# EAGLE library part MAX570X (library DAC)
The MAX5703/MAX5704/MAX5705 single-channel, lowpower, 8-/10-/12-bit, voltage-output digital-to-analog converters (DACs) include output buffers and an internal reference that is selectable to be 2.048V, 2.500V, or 4.096V. The MAX5703/MAX5704/MAX5705 accept a wide supply voltage range of 2.7V to 5.5V with extremely low power (< 1mW) consumption to accommodate most low-voltage applications. A precision external reference input allows rail-to-rail operation and presents a 100kI (typ) load to an external reference. The MAX5703/MAX5704/MAX5705 have a 50MHz, 3-wire SPI/QSPI™/MICROWIRE®/DSP-compatible serial interface. The DAC output is buffered and has a low supply current of 155FA (typical at 3V) and a low offset error of Q0.5mV (typical). On power-up, the MAX5703/ MAX5704/MAX5705 reset the DAC outputs to zero, providing additional safety for applications that drive valves or other transducers which need to be off on power-up. The internal reference is initially powered down to allow use of an external reference. The MAX5703/MAX5704/MAX5705 include a userconfigurable active-low asynchronous input, AUX for additional flexibility. This input can be programmed to asynchronously clear (CLR) or temporarily gate (GATE) the DAC output to a user-programmable value. A dedicated active-low asynchronous LDAC input is also included. This allows simultaneous output updates of multiple devices. The MAX5703/MAX5704/MAX5705 are available in 10-pin TDFN/µMAXM packages and are specified over the -40NC to +125NC temperature range.
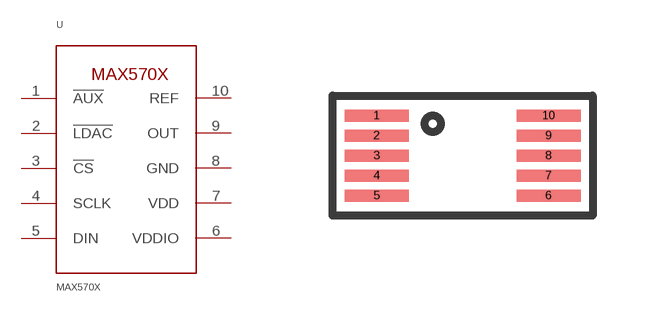
[diagram p0: symbol with the pads of UMAX-10; footprint UMAX-10]

Designator prefix U

## MAX570XXAUB+  [UMAX-10]
1  !AUX!
2  !LDAC!
3  !CS!
4  SCLK
5  DIN
6  VDDIO  pwr
7  VDD  pwr
8  GND  pwr
9  OUT  out
10  REF  pwr

## Footprint UMAX-10 (pad centres in mm)
smd 1.6 x 0.3: 1 0,2; 2 0,1.5; 3 0,1; 4 0,0.5; 5 0,0; 6 4.3,0; 7 4.3,0.5; 8 4.3,1; 9 4.3,1.5; 10 4.3,2